# Altium footprint library USB.PcbLib: 17 footprints (part 1 of 2)
Each footprint in its own frame and in the unit in brackets; x right, y up, seen from the top. Pads: shape width x height; smd on the part's side, far side on the other; paste and mask are expansions set on the pad; w line width, h text height; cw(c..) or ccw(c..) is an arc to the next point about the centre after c.
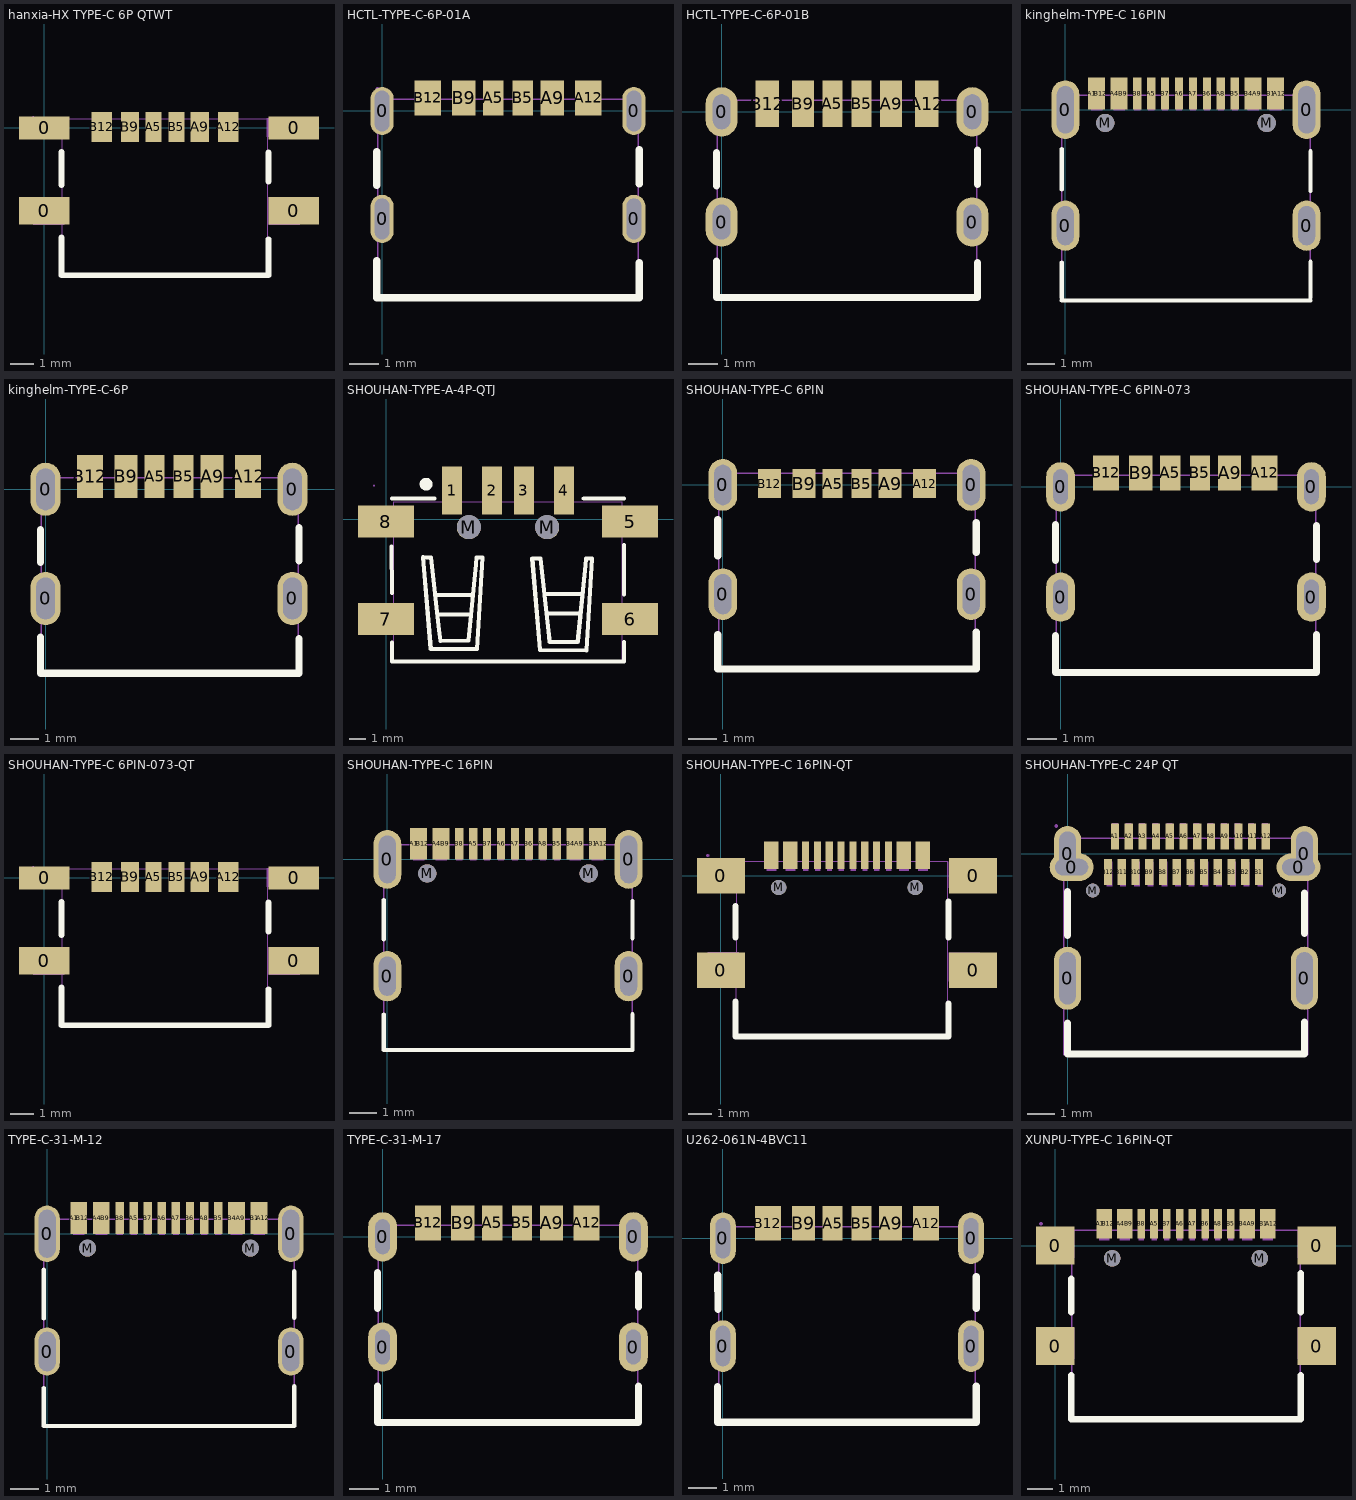
[diagram p0: the footprints below, top view; thin cyan lines are the x and y axes]

## hanxia-HX TYPE-C 6P QTWT [mm] "hanxia(韩下) Type-C 母 机械寿命：5000次 6P充电母座 不锈钢壳 四脚贴片"
pads (10):
  rect 2.2x1.2 smd: 0(0,-3.6) 0(10.84,-3.6)
  rect 2.2x1 smd: 0(0,0) 0(10.84,0)
  rect 0.7x1.3 smd: A5(4.744,0.05) B5(5.744,0.05)
  rect 0.8x1.3 smd: A9(6.764,0.05) B9(3.724,0.05)
  rect 0.9x1.3 smd: A12(7.994,0.05) B12(2.494,0.05)
Top Overlay:
  lines w0.254: 0.744,-4.764 0.744,-6.4 9.744,-6.4 9.744,-4.835 ; 0.75,-2.475 0.75,-1.045 ; 9.744,-2.332 9.744,-1.069
Mechanical 15:
  region: 11.1,-3 11.1,-4.2 9.75,-4.2 9.75,-3
  region: 11.175,0.425 11.175,-0.375 9.675,-0.375 9.675,0.425
  region: 0.874,-3 0.874,-4.2 -0.476,-4.2 -0.476,-3
  region: 1.024,0.4 1.024,-0.4 -0.476,-0.4 -0.476,0.4
  region: 7.694,0.45 8.294,0.45 8.294,-0.35 7.694,-0.35
  region: 2.194,0.45 2.794,0.45 2.794,-0.35 2.194,-0.35
  region: 6.484,0.45 7.044,0.45 7.044,-0.35 6.484,-0.35
  region: 3.444,0.45 4.004,0.45 4.004,-0.35 3.444,-0.35
  region: 5.484,0.45 6.004,0.45 6.004,-0.35 5.484,-0.35
  region: 4.484,0.45 5.004,0.45 5.004,-0.35 4.484,-0.35
  region: -0.416,0.45 -0.416,0.425 -0.451,0.39 -0.501,0.39 -0.536,0.425 -0.536,0.45 -0.536,0.475 -0.501,0.51 -0.451,0.51 -0.416,0.475
  lines w0.051: 0.774,-6.404 9.714,-6.404 9.714,0.396 0.774,0.396 0.774,-6.404
3D body "TypeC-6Pin-SMD-QT.STEP": height 3.26, standoff 0, extent -0.52,-6.442 10.92,0.458

## HCTL-TYPE-C-6P-01A [mm] "HCTL(华灿天禄) Type-C 母 卧贴 锈钢外壳 6PIN 推荐焊盘"
pads (10):
  oval 0.8x1.65 hole 0.5 slot 1.4 at 90 deg mask+0.05: 0(0,-3.7) 0(0,0) 0(8.64,-3.7) 0(8.64,0)
  rect 0.7x1.2 smd mask+0.05: A5(3.82,0.45) B5(4.82,0.45)
  rect 0.8x1.2 smd mask+0.05: A9(5.84,0.45) B9(2.8,0.45)
  rect 0.9x1.2 smd mask+0.05: A12(7.07,0.45) B12(1.57,0.45)
Top Overlay:
  lines w0.25: -0.181,-5.138 -0.181,-6.401 8.821,-6.401 8.821,-5.2 ; -0.18,-2.55 -0.18,-1.401 ; 8.82,-2.498 8.82,-1.328
Mechanical 15:
  region: -0.09,0.75 -0.09,0.725 -0.125,0.69 -0.175,0.69 -0.21,0.725 -0.21,0.75 -0.21,0.775 -0.175,0.81 -0.125,0.81 -0.09,0.775
  region: -0.15,0.4 0.15,0.4 0.15,-0.4 -0.15,-0.4
  region: -0.15,-3.4 0.15,-3.4 0.15,-4.2 -0.15,-4.2
  region: 8.49,-3.4 8.79,-3.4 8.79,-4.2 8.49,-4.2
  region: 8.49,0.4 8.79,0.4 8.79,-0.4 8.49,-0.4
  region: 1.32,0.75 1.92,0.75 1.92,0 1.32,0
  region: 6.72,0.75 7.32,0.75 7.32,0 6.72,0
  region: 2.54,0.75 3.1,0.75 3.1,0 2.54,0
  region: 5.54,0.75 6.1,0.75 6.1,0 5.54,0
  region: 4.56,0.75 5.08,0.75 5.08,0 4.56,0
  region: 3.56,0.75 4.08,0.75 4.08,0 3.56,0
  lines w0.051: -0.15,-6.4 8.79,-6.4 8.79,0.4 -0.15,0.4 -0.15,-6.4
3D body "TYPE-C-31-M-17.stp": height 3.22, standoff -0.79, extent -0.152,-6.404 8.788,0.396

## HCTL-TYPE-C-6P-01B [mm] "HCTL(华灿天禄) Type-C 母 卧贴 锈钢外壳 6PIN 推荐焊盘"
pads (10):
  oval 1.1x1.7 hole 0.6 slot 1.2 at 90 deg mask+0.05: 0(0,-3.8) 0(0,0) 0(8.64,-3.8) 0(8.64,0)
  rect 0.7x1.6 smd mask+0.05: A5(3.82,0.28) B5(4.82,0.28)
  rect 0.76x1.6 smd mask+0.05: A9(5.84,0.28) B9(2.8,0.28)
  rect 0.8x1.6 smd mask+0.05: A12(7.07,0.28) B12(1.57,0.28)
Top Overlay:
  lines w0.25: -0.181,-5.138 -0.181,-6.401 8.821,-6.401 8.821,-5.2 ; -0.18,-2.55 -0.18,-1.401 ; 8.82,-2.498 8.82,-1.328
Mechanical 15:
  region: 3.56,0.75 4.08,0.75 4.08,0 3.56,0
  region: 4.56,0.75 5.08,0.75 5.08,0 4.56,0
  region: 5.54,0.75 6.1,0.75 6.1,0 5.54,0
  region: 2.54,0.75 3.1,0.75 3.1,0 2.54,0
  region: 6.72,0.75 7.32,0.75 7.32,0 6.72,0
  region: 1.32,0.75 1.92,0.75 1.92,0 1.32,0
  region: 8.49,0.4 8.79,0.4 8.79,-0.4 8.49,-0.4
  region: 8.49,-3.4 8.79,-3.4 8.79,-4.2 8.49,-4.2
  region: -0.15,-3.4 0.15,-3.4 0.15,-4.2 -0.15,-4.2
  region: -0.15,0.4 0.15,0.4 0.15,-0.4 -0.15,-0.4
  region: -0.09,0.75 -0.09,0.725 -0.125,0.69 -0.175,0.69 -0.21,0.725 -0.21,0.75 -0.21,0.775 -0.175,0.81 -0.125,0.81 -0.09,0.775
  lines w0.051: -0.15,-6.4 -0.15,0.4 8.79,0.4 8.79,-6.4 -0.15,-6.4
3D body "TYPE-C-31-M-17.stp": height 3.22, standoff -0.79, extent -0.152,-6.404 8.788,0.396

## kinghelm-TYPE-C 16PIN [mm] "kinghelm(金航标) Type-C 母 卧贴 带定位柱 16PIN 推荐焊盘"
pads (22):
  oval 1x1.8 hole 0.6 slot 1.4 at 90 deg mask+0.05: 0(0,-4.15) 0(8.64,-4.15)
  oval 1x2.1 hole 0.6 slot 1.7 at 90 deg mask+0.05: 0(0,0) 0(8.64,0)
  rect 0.3x1.14 smd mask+0.05: A1(0.97,0.58) A4(1.77,0.58) A5(3.07,0.58) A6(4.07,0.58) A7(4.57,0.58) A8(5.57,0.58) A9(6.87,0.58) A12(7.67,0.58) B1(7.37,0.58) B4(6.57,0.58) B5(6.07,0.58) B6(5.07,0.58) B7(3.57,0.58) B8(2.57,0.58) B9(2.07,0.58) B12(1.27,0.58)
  round 0.65 hole 0.65 unplated mask+0: M(1.43,-0.47) M(7.21,-0.47)
Top Overlay:
  lines w0.15: -0.125,-6.825 8.775,-6.825 ; -0.125,-6.725 -0.125,-5.466 ; -0.125,-2.855 -0.125,-1.41 ; 8.775,-6.725 8.775,-5.444 ; 8.775,-2.909 8.775,-1.486
Mechanical 15:
  region: -0.125,-3.85 0.125,-3.85 0.125,-4.55 -0.125,-4.55
  region: 4.975,0.824 5.175,0.824 5.175,-0.026 4.975,-0.026
  region: 0.925,0.824 1.325,0.824 1.325,-0.026 0.925,-0.026
  region: 1.725,0.824 2.125,0.824 2.125,-0.026 1.725,-0.026
  region: 2.475,0.824 2.675,0.824 2.675,-0.026 2.475,-0.026
  region: 8.525,-3.85 8.775,-3.85 8.775,-4.55 8.525,-4.55
  region: 8.525,0.524 8.775,0.524 8.775,-0.576 8.525,-0.576
  region: -0.125,0.524 0.125,0.524 0.125,-0.576 -0.125,-0.576
  region: 7.325,0.824 7.725,0.824 7.725,-0.026 7.325,-0.026
  region: 6.525,0.824 6.925,0.824 6.925,-0.026 6.525,-0.026
  region: 5.975,0.824 6.175,0.824 6.175,-0.026 5.975,-0.026
  region: 5.475,0.824 5.675,0.824 5.675,-0.026 5.475,-0.026
  region: 4.475,0.824 4.675,0.824 4.675,-0.026 4.475,-0.026
  region: 3.975,0.824 4.175,0.824 4.175,-0.026 3.975,-0.026
  region: 2.975,0.824 3.175,0.824 3.175,-0.026 2.975,-0.026
  region: 3.475,0.824 3.675,0.824 3.675,-0.026 3.475,-0.026
  region: -0.065,0.824 -0.065,0.799 -0.1,0.764 -0.15,0.764 -0.185,0.799 -0.185,0.824 -0.185,0.849 -0.15,0.884 -0.1,0.884 -0.065,0.849
  lines w0.051: -0.127,-6.826 8.775,-6.826 8.775,0.524 -0.127,0.524 -0.127,-6.826
3D body "TYPE-C-16PIN-SMD.STEP": height 3.27, standoff -0.9, extent -0.165,-6.749 8.775,0.849

## kinghelm-TYPE-C-6P [mm] "kinghelm(金航标) Type-C 母 卧贴 锈钢外壳 6PIN 推荐焊盘"
pads (10):
  oval 1.05x1.85 hole 0.65 slot 1.45 at 90 deg mask+0.05: 0(0,-3.8) 0(0,0) 0(8.59,-3.8) 0(8.59,0)
  rect 0.7x1.5 smd mask+0.05: A5(3.795,0.45) B5(4.795,0.45)
  rect 0.8x1.5 smd mask+0.05: A9(5.795,0.45) B9(2.795,0.45)
  rect 0.9x1.5 smd mask+0.05: A12(7.045,0.45) B12(1.545,0.45)
Top Overlay:
  lines w0.25: -0.181,-5.138 -0.181,-6.401 8.821,-6.401 8.821,-5.2 ; -0.18,-2.55 -0.18,-1.401 ; 8.82,-2.498 8.82,-1.328
Mechanical 15:
  region: 3.56,0.75 4.08,0.75 4.08,0 3.56,0
  region: 4.56,0.75 5.08,0.75 5.08,0 4.56,0
  region: 5.54,0.75 6.1,0.75 6.1,0 5.54,0
  region: 2.54,0.75 3.1,0.75 3.1,0 2.54,0
  region: 6.72,0.75 7.32,0.75 7.32,0 6.72,0
  region: 1.32,0.75 1.92,0.75 1.92,0 1.32,0
  region: 8.49,0.4 8.79,0.4 8.79,-0.4 8.49,-0.4
  region: 8.49,-3.4 8.79,-3.4 8.79,-4.2 8.49,-4.2
  region: -0.15,-3.4 0.15,-3.4 0.15,-4.2 -0.15,-4.2
  region: -0.15,0.4 0.15,0.4 0.15,-0.4 -0.15,-0.4
  region: -0.09,0.75 -0.09,0.725 -0.125,0.69 -0.175,0.69 -0.21,0.725 -0.21,0.75 -0.21,0.775 -0.175,0.81 -0.125,0.81 -0.09,0.775
  lines w0.051: -0.15,-6.4 -0.15,0.4 8.79,0.4 8.79,-6.4 -0.15,-6.4
3D body "TYPE-C-31-M-17.stp": height 3.22, standoff -0.79, extent -0.152,-6.404 8.788,0.396

## SHOUHAN-TYPE-A-4P-QTJ [mm] "SHOU HAN(首韩) Type-A 母 卧贴 4PIN 推荐焊盘"
pads (10):
  rect 1.25x3 smd: 1(4.097,1.81) 2(6.597,1.81) 3(8.597,1.81) 4(11.097,1.81)
  rect 3.5x2 smd: 5(15.222,-0.14) 6(15.222,-6.24) 7(-0.028,-6.24) 8(-0.028,-0.14)
  round 1.5 hole 1.5 unplated mask+0: M(5.147,-0.49) M(10.047,-0.49)
Top Overlay:
  circle w0.4: c2.475,2.2 r0.2
  lines w0.254: 0.325,-1.7 0.35,-4.6 ; 0.347,-7.7 0.347,-8.89 14.847,-8.89 14.847,-7.675 ; 0.347,1.291 2.999,1.291 ; 3.111,-4.735 5.372,-4.735 ; 3.251,-5.945 5.281,-5.945 ; 9.961,-4.664 12.221,-4.664 ; 10.101,-5.874 12.131,-5.874 ; 12.331,1.291 14.847,1.291 ; 14.85,-4.7 14.85,-1.6 ; 2.274,-2.368 2.769,-8.103 5.652,-8.114 6.002,-2.371 5.622,-2.371 5.592,-2.801 5.118,-7.58 3.368,-7.59 3.293,-6.912 2.783,-2.372 2.274,-2.368 ; 9.113,-2.438 9.608,-8.173 12.491,-8.184 12.841,-2.441 12.461,-2.441 12.431,-2.871 11.957,-7.649 10.207,-7.66 10.132,-6.982 9.622,-2.441 9.113,-2.438
Mechanical 15:
  region: 3.847,2.11 4.347,2.11 4.347,0.91 3.847,0.91
  region: 6.347,2.11 6.847,2.11 6.847,0.91 6.347,0.91
  region: 8.347,2.11 8.847,2.11 8.847,0.91 8.347,0.91
  region: 10.847,2.11 11.347,2.11 11.347,0.91 10.847,0.91
  region: 0.722,-6.74 -0.778,-6.74 -0.778,-5.74 0.722,-5.74
  region: 0.722,-0.64 -0.778,-0.64 -0.778,0.36 0.722,0.36
  region: 15.972,-0.64 14.472,-0.64 14.472,0.36 15.972,0.36
  region: 15.972,-6.74 14.472,-6.74 14.472,-5.74 15.972,-5.74
  region: -0.718,2.11 -0.718,2.085 -0.753,2.05 -0.803,2.05 -0.838,2.085 -0.838,2.11 -0.838,2.135 -0.803,2.17 -0.753,2.17 -0.718,2.135
  lines w0.051: 0.447,-8.89 0.447,1.11 14.747,1.11 14.747,-8.89 0.447,-8.89
3D body "TYPE-A-4P-QT.STEP": height 6.95, standoff -0.6, extent -0.425,-8.57 15.575,2.83

## SHOUHAN-TYPE-C 6PIN [mm] "SHOU HAN(首韩) Type-C 母 卧贴 锈钢外壳 6PIN 推荐焊盘"
pads (10):
  oval 1x1.8 hole 0.6 slot 1.4 at 90 deg mask+0.05: 0(0,-3.8) 0(0,0) 0(8.64,-3.8) 0(8.64,0)
  rect 0.7x1 smd mask+0.05: A5(3.82,0.05) B5(4.82,0.05)
  rect 0.8x1 smd mask+0.05: A9(5.82,0.05) A12(7.02,0.05) B9(2.82,0.05) B12(1.62,0.05)
Top Overlay:
  lines w0.25: -0.181,-5.212 -0.181,-6.401 8.821,-6.401 8.821,-5.122 ; -0.18,-2.474 -0.18,-1.2 ; 8.82,-2.345 8.82,-1.31
Mechanical 15:
  region: 3.56,0.475 4.08,0.475 4.08,-0.275 3.56,-0.275
  region: 4.56,0.475 5.08,0.475 5.08,-0.275 4.56,-0.275
  region: 5.54,0.475 6.1,0.475 6.1,-0.275 5.54,-0.275
  region: 2.54,0.475 3.1,0.475 3.1,-0.275 2.54,-0.275
  region: 6.72,0.475 7.32,0.475 7.32,-0.275 6.72,-0.275
  region: 1.32,0.475 1.92,0.475 1.92,-0.275 1.32,-0.275
  region: 8.49,0.4 8.79,0.4 8.79,-0.4 8.49,-0.4
  region: 8.49,-3.4 8.79,-3.4 8.79,-4.2 8.49,-4.2
  region: -0.15,-3.4 0.15,-3.4 0.15,-4.2 -0.15,-4.2
  region: -0.15,0.4 0.15,0.4 0.15,-0.4 -0.15,-0.4
  region: -0.09,0.75 -0.09,0.725 -0.125,0.69 -0.175,0.69 -0.21,0.725 -0.21,0.75 -0.21,0.775 -0.175,0.81 -0.125,0.81 -0.09,0.775
  lines w0.051: -0.15,-6.4 -0.15,0.4 8.79,0.4 8.79,-6.4 -0.15,-6.4
3D body "TYPE-C-31-M-17.stp": height 3.22, standoff -0.79, extent -0.152,-6.404 8.788,0.396

## SHOUHAN-TYPE-C 6PIN-073 [mm] "SHOU HAN(首韩) Type-C 母 卧贴 锈钢外壳 6PIN 推荐焊盘"
pads (10):
  oval 1x1.7 hole 0.5 slot 1.2 at 90 deg mask+0.05: 0(0,-3.8) 0(0,0) 0(8.64,-3.8) 0(8.64,0)
  rect 0.7x1.2 smd mask+0.05: A5(3.78,0.48) B5(4.8,0.48)
  rect 0.8x1.2 smd mask+0.05: A9(5.82,0.48) B9(2.76,0.48)
  rect 0.9x1.2 smd mask+0.05: A12(7.02,0.48) B12(1.56,0.48)
Top Overlay:
  lines w0.25: -0.181,-5.129 -0.181,-6.401 8.821,-6.401 8.821,-5.099 ; -0.18,-2.53 -0.18,-1.296 ; 8.82,-2.509 8.82,-1.337
Mechanical 15:
  region: 3.56,0.75 4.08,0.75 4.08,0 3.56,0
  region: 4.56,0.75 5.08,0.75 5.08,0 4.56,0
  region: 5.54,0.75 6.1,0.75 6.1,0 5.54,0
  region: 2.54,0.75 3.1,0.75 3.1,0 2.54,0
  region: 6.72,0.75 7.32,0.75 7.32,0 6.72,0
  region: 1.32,0.75 1.92,0.75 1.92,0 1.32,0
  region: 8.49,0.4 8.79,0.4 8.79,-0.4 8.49,-0.4
  region: 8.49,-3.4 8.79,-3.4 8.79,-4.2 8.49,-4.2
  region: -0.15,-3.4 0.15,-3.4 0.15,-4.2 -0.15,-4.2
  region: -0.15,0.4 0.15,0.4 0.15,-0.4 -0.15,-0.4
  region: -0.09,0.75 -0.09,0.725 -0.125,0.69 -0.175,0.69 -0.21,0.725 -0.21,0.75 -0.21,0.775 -0.175,0.81 -0.125,0.81 -0.09,0.775
  lines w0.051: -0.15,-6.4 -0.15,0.4 8.79,0.4 8.79,-6.4 -0.15,-6.4
3D body "TYPE-C-31-M-17.stp": height 3.22, standoff -0.79, extent -0.152,-6.404 8.788,0.396

## SHOUHAN-TYPE-C 6PIN-073-QT [mm] "SHOU HAN(首韩) Type-C 母 卧贴 锈钢外壳 6PIN 推荐焊盘 四角全贴"
pads (10):
  rect 2.2x1.2 smd: 0(0,-3.6) 0(10.84,-3.6)
  rect 2.2x1 smd: 0(0,0) 0(10.84,0)
  rect 0.7x1.3 smd: A5(4.744,0.05) B5(5.744,0.05)
  rect 0.8x1.3 smd: A9(6.764,0.05) B9(3.724,0.05)
  rect 0.9x1.3 smd: A12(7.994,0.05) B12(2.494,0.05)
Top Overlay:
  lines w0.254: 0.744,-4.764 0.744,-6.4 9.744,-6.4 9.744,-4.835 ; 0.75,-2.475 0.75,-1.045 ; 9.744,-2.332 9.744,-1.069
Mechanical 15:
  region: 11.1,-3 11.1,-4.2 9.75,-4.2 9.75,-3
  region: 11.175,0.425 11.175,-0.375 9.675,-0.375 9.675,0.425
  region: 0.874,-3 0.874,-4.2 -0.476,-4.2 -0.476,-3
  region: 1.024,0.4 1.024,-0.4 -0.476,-0.4 -0.476,0.4
  region: 7.694,0.45 8.294,0.45 8.294,-0.35 7.694,-0.35
  region: 2.194,0.45 2.794,0.45 2.794,-0.35 2.194,-0.35
  region: 6.484,0.45 7.044,0.45 7.044,-0.35 6.484,-0.35
  region: 3.444,0.45 4.004,0.45 4.004,-0.35 3.444,-0.35
  region: 5.484,0.45 6.004,0.45 6.004,-0.35 5.484,-0.35
  region: 4.484,0.45 5.004,0.45 5.004,-0.35 4.484,-0.35
  region: -0.416,0.45 -0.416,0.425 -0.451,0.39 -0.501,0.39 -0.536,0.425 -0.536,0.45 -0.536,0.475 -0.501,0.51 -0.451,0.51 -0.416,0.475
  lines w0.051: 0.774,-6.404 9.714,-6.404 9.714,0.396 0.774,0.396 0.774,-6.404
3D body "TypeC-6Pin-SMD-QT.STEP": height 3.26, standoff 0, extent -0.52,-6.442 10.92,0.458

## SHOUHAN-TYPE-C 16PIN [mm] "SHOU HAN(首韩) Type-C 母 卧贴 带定位柱 不锈钢外壳 16PIN 推荐焊盘"
pads (22):
  oval 1x1.8 hole 0.6 slot 1.4 at 90 deg mask+0.05: 0(0,-4.18) 0(8.64,-4.18)
  oval 1x2.1 hole 0.6 slot 1.7 at 90 deg mask+0.05: 0(0,0) 0(8.64,0)
  rect 0.3x1.14 smd mask+0.05: A1(0.97,0.56) A4(1.77,0.56) A5(3.07,0.56) A6(4.07,0.56) A7(4.57,0.56) A8(5.57,0.56) A9(6.87,0.56) A12(7.67,0.56) B1(7.37,0.56) B4(6.57,0.56) B5(6.07,0.56) B6(5.07,0.56) B7(3.57,0.56) B8(2.57,0.56) B9(2.07,0.56) B12(1.27,0.56)
  round 0.65 hole 0.65 mask+0: M(1.43,-0.5) M(7.21,-0.5)
Top Overlay:
  lines w0.15: -0.125,-5.55 -0.125,-6.825 8.775,-6.825 8.775,-5.54 ; -0.125,-2.855 -0.125,-1.456 ; 8.775,-2.822 8.775,-1.488
Mechanical 15:
  region: -0.065,0.824 -0.065,0.799 -0.1,0.764 -0.15,0.764 -0.185,0.799 -0.185,0.824 -0.185,0.849 -0.15,0.884 -0.1,0.884 -0.065,0.849
  region: 3.475,0.824 3.675,0.824 3.675,-0.026 3.475,-0.026
  region: 2.975,0.824 3.175,0.824 3.175,-0.026 2.975,-0.026
  region: 3.975,0.824 4.175,0.824 4.175,-0.026 3.975,-0.026
  region: 4.475,0.824 4.675,0.824 4.675,-0.026 4.475,-0.026
  region: 5.475,0.824 5.675,0.824 5.675,-0.026 5.475,-0.026
  region: 5.975,0.824 6.175,0.824 6.175,-0.026 5.975,-0.026
  region: 6.525,0.824 6.925,0.824 6.925,-0.026 6.525,-0.026
  region: 7.325,0.824 7.725,0.824 7.725,-0.026 7.325,-0.026
  region: -0.125,0.524 0.125,0.524 0.125,-0.576 -0.125,-0.576
  region: 8.525,0.524 8.775,0.524 8.775,-0.576 8.525,-0.576
  region: 8.525,-3.85 8.775,-3.85 8.775,-4.55 8.525,-4.55
  region: 2.475,0.824 2.675,0.824 2.675,-0.026 2.475,-0.026
  region: 1.725,0.824 2.125,0.824 2.125,-0.026 1.725,-0.026
  region: 0.925,0.824 1.325,0.824 1.325,-0.026 0.925,-0.026
  region: 4.975,0.824 5.175,0.824 5.175,-0.026 4.975,-0.026
  region: -0.125,-3.85 0.125,-3.85 0.125,-4.55 -0.125,-4.55
  lines w0.051: -0.127,-6.826 -0.127,0.524 8.775,0.524 8.775,-6.826 -0.127,-6.826
3D body "TYPE-C-16PIN-SMD.STEP": height 3.29, standoff -0.88, extent -0.14,-6.774 8.8,0.824

## SHOUHAN-TYPE-C 16PIN-QT [mm] "SHOU HAN(首韩) 16PIN TYPEC 四角贴板 带定位柱 推荐焊盘"
pads (22):
  rect 2.02x1.5 smd paste+0 mask+0.05: 0(0,-4) 0(0,0) 0(10.66,-4) 0(10.66,0)
  rect 0.3x1.15 smd paste+0 mask+0.05: A1(1.98,0.86) A4(2.78,0.86) A5(4.08,0.86) A6(5.08,0.86) A7(5.58,0.86) A8(6.58,0.86) A9(7.88,0.86) A12(8.68,0.86) B1(8.38,0.86) B4(7.58,0.86) B5(7.08,0.86) B6(6.08,0.86) B7(4.58,0.86) B8(3.58,0.86) B9(3.08,0.86) B12(2.28,0.86)
  round 0.65 hole 0.65 mask+0: M(2.44,-0.5) M(8.22,-0.5)
Top Overlay:
  lines w0.254: 0.62,-5.321 0.62,-6.79 9.62,-6.79 9.62,-5.413 ; 0.62,-2.609 0.62,-1.29 ; 9.62,-2.609 9.62,-1.09
Mechanical 15:
  region: 6.99,0.85 7.19,0.85 7.19,0.2 6.99,0.2
  region: 6.49,0.85 6.69,0.85 6.69,0.2 6.49,0.2
  region: 5.99,0.85 6.19,0.85 6.19,0.2 5.99,0.2
  region: 5.49,0.85 5.69,0.85 5.69,0.2 5.49,0.2
  region: 4.99,0.85 5.19,0.85 5.19,0.2 4.99,0.2
  region: 4.49,0.85 4.69,0.85 4.69,0.2 4.49,0.2
  region: 3.99,0.85 4.19,0.85 4.19,0.2 3.99,0.2
  region: 3.49,0.85 3.69,0.85 3.69,0.2 3.49,0.2
  region: 8.34,0.85 8.74,0.85 8.74,0.2 8.34,0.2
  region: 7.54,0.85 7.94,0.85 7.94,0.2 7.54,0.2
  region: 2.74,0.85 3.14,0.85 3.14,0.2 2.74,0.2
  region: 1.94,0.85 2.34,0.85 2.34,0.2 1.94,0.2
  region: 9.635,-3.265 10.935,-3.265 10.935,-4.465 9.635,-4.465
  region: -0.555,-3.24 0.745,-3.24 0.745,-4.44 -0.555,-4.44
  region: -0.555,0.61 0.745,0.61 0.745,-0.49 -0.555,-0.49
  region: 9.635,0.585 10.935,0.585 10.935,-0.515 9.635,-0.515
  region: -0.495,0.85 -0.495,0.825 -0.53,0.79 -0.58,0.79 -0.615,0.825 -0.615,0.85 -0.615,0.875 -0.58,0.91 -0.53,0.91 -0.495,0.875
  lines w0.051: 0.64,0.6 0.65,-3.66 0.65,-6.76 9.59,-6.76 9.59,0.6 0.64,0.6
3D body "TYPE-C-16PIN-SMD-QT.STEP": height 3.24, standoff -0.6, extent -0.345,-6.804 10.995,0.796

## SHOUHAN-TYPE-C 24P QT [mm] "SHOU HAN(首韩) Type-C 母 卧贴 带定位柱 不锈钢外壳 24PIN 推荐焊盘 /  / 焊盘整体向右偏移0.062，未给出确切偏移尺寸"
pads (32):
  oval 1x2.3 hole 0.6 slot 1.9 at 90 deg paste-2539.97 mask+0.05: 0(0,-4.55) 0(8.64,-4.55)
  oval 1x2 hole 0.6 slot 1.6 at 90 deg mask+0.05: 0(0,0) 0(8.64,0)
  oval 1.6x1 hole 0.6 slot 1.2 at 0 deg mask+0.05: 0(0.15,-0.5) 0(8.425,-0.5)
  rect 0.3x0.95 smd paste-100 mask+0.05: A1(1.73,0.625) A2(2.23,0.625) A3(2.73,0.625) A4(3.23,0.625) A5(3.73,0.625) A6(4.23,0.625) A7(4.73,0.625) A8(5.23,0.625) A9(5.73,0.625) A10(6.23,0.625) A11(6.73,0.625) A12(7.23,0.625) B1(6.98,-0.675) B2(6.48,-0.675) B3(5.98,-0.675) B4(5.48,-0.675) B5(4.98,-0.675) B6(4.48,-0.675) B7(3.98,-0.675) B8(3.48,-0.675) B9(2.98,-0.675) B10(2.48,-0.675) B11(1.98,-0.675) B12(1.48,-0.675)
  round 0.5 hole 0.5 mask+0: M(0.92,-1.35) M(7.72,-1.35)
Top Overlay:
  lines w0.254: -0.002,-6.187 -0.002,-7.319 8.638,-7.319 8.638,-6.142 ; -0.001,-2.994 0,-1.391 ; 8.636,-1.437 8.637,-2.914
Mechanical 15:
  drawing of 35 lines, arcs and shapes, not listed
3D body "USB-C-SMD_TYPE-C-24P-QT.STEP": height 3.16, standoff -0.6, extent -0.14,-7.25 8.8,0.85

## TYPE-C-31-M-12 [mm] "韩国韩荣 Type-C 母 卧贴 带定位柱 不锈钢外壳 16PIN 推荐焊盘"
pads (22):
  oval 0.9x1.7 hole 0.6 slot 1.4 at 90 deg mask+0.05: 0(0,-4.18) 0(8.65,-4.18)
  oval 0.9x2 hole 0.6 slot 1.7 at 90 deg mask+0.05: 0(0,0) 0(8.65,0)
  rect 0.3x1.14 smd mask+0.05: A1(0.97,0.56) A4(1.77,0.56) A5(3.07,0.56) A6(4.07,0.56) A7(4.57,0.56) A8(5.57,0.56) A9(6.87,0.56) A12(7.67,0.56) B1(7.37,0.56) B4(6.57,0.56) B5(6.07,0.56) B6(5.07,0.56) B7(3.57,0.56) B8(2.57,0.56) B9(2.07,0.56) B12(1.27,0.56)
  round 0.6 hole 0.6 mask+0: M(1.435,-0.51) M(7.215,-0.51)
Top Overlay:
  lines w0.15: -0.125,-5.48 -0.125,-6.825 8.775,-6.825 8.775,-5.415 ; -0.125,-3.005 -0.125,-1.273 ; 8.775,-2.984 8.775,-1.327
Mechanical 15:
  region: -0.065,0.824 -0.065,0.799 -0.1,0.764 -0.15,0.764 -0.185,0.799 -0.185,0.824 -0.185,0.849 -0.15,0.884 -0.1,0.884 -0.065,0.849
  region: 3.475,0.824 3.675,0.824 3.675,-0.026 3.475,-0.026
  region: 2.975,0.824 3.175,0.824 3.175,-0.026 2.975,-0.026
  region: 3.975,0.824 4.175,0.824 4.175,-0.026 3.975,-0.026
  region: 4.475,0.824 4.675,0.824 4.675,-0.026 4.475,-0.026
  region: 5.475,0.824 5.675,0.824 5.675,-0.026 5.475,-0.026
  region: 5.975,0.824 6.175,0.824 6.175,-0.026 5.975,-0.026
  region: 6.525,0.824 6.925,0.824 6.925,-0.026 6.525,-0.026
  region: 7.325,0.824 7.725,0.824 7.725,-0.026 7.325,-0.026
  region: -0.125,0.524 0.125,0.524 0.125,-0.576 -0.125,-0.576
  region: 8.525,0.524 8.775,0.524 8.775,-0.576 8.525,-0.576
  region: 8.525,-3.85 8.775,-3.85 8.775,-4.55 8.525,-4.55
  region: 2.475,0.824 2.675,0.824 2.675,-0.026 2.475,-0.026
  region: 1.725,0.824 2.125,0.824 2.125,-0.026 1.725,-0.026
  region: 0.925,0.824 1.325,0.824 1.325,-0.026 0.925,-0.026
  region: 4.975,0.824 5.175,0.824 5.175,-0.026 4.975,-0.026
  region: -0.125,-3.85 0.125,-3.85 0.125,-4.55 -0.125,-4.55
  lines w0.051: -0.127,-6.826 -0.127,0.524 8.775,0.524 8.775,-6.826 -0.127,-6.826
3D body "TYPE-C-31-M-12.step": height 3.27, standoff -0.99, extent -0.155,-6.785 8.785,0.965

## TYPE-C-31-M-17 [mm] "韩国韩荣 Type-C 母 卧贴 锈钢外壳 6PIN 推荐焊盘"
pads (10):
  oval 1x1.7 hole 0.5 slot 1.2 at 90 deg mask+0.05: 0(0,-3.8) 0(0,0) 0(8.64,-3.8) 0(8.64,0)
  rect 0.7x1.2 smd mask+0.05: A5(3.78,0.48) B5(4.8,0.48)
  rect 0.8x1.2 smd mask+0.05: A9(5.82,0.48) B9(2.76,0.48)
  rect 0.9x1.2 smd mask+0.05: A12(7.02,0.48) B12(1.56,0.48)
Top Overlay:
  lines w0.25: -0.181,-5.139 -0.181,-6.401 8.821,-6.401 8.821,-5.15 ; -0.18,-2.458 -0.18,-1.235 ; 8.82,-2.418 8.82,-1.286
Mechanical 15:
  region: -0.09,0.75 -0.09,0.725 -0.125,0.69 -0.175,0.69 -0.21,0.725 -0.21,0.75 -0.21,0.775 -0.175,0.81 -0.125,0.81 -0.09,0.775
  region: -0.15,0.4 0.15,0.4 0.15,-0.4 -0.15,-0.4
  region: -0.15,-3.4 0.15,-3.4 0.15,-4.2 -0.15,-4.2
  region: 8.49,-3.4 8.79,-3.4 8.79,-4.2 8.49,-4.2
  region: 8.49,0.4 8.79,0.4 8.79,-0.4 8.49,-0.4
  region: 1.32,0.75 1.92,0.75 1.92,0 1.32,0
  region: 6.72,0.75 7.32,0.75 7.32,0 6.72,0
  region: 2.54,0.75 3.1,0.75 3.1,0 2.54,0
  region: 5.54,0.75 6.1,0.75 6.1,0 5.54,0
  region: 4.56,0.75 5.08,0.75 5.08,0 4.56,0
  region: 3.56,0.75 4.08,0.75 4.08,0 3.56,0
  lines w0.051: -0.15,-6.4 8.79,-6.4 8.79,0.4 -0.15,0.4 -0.15,-6.4
3D body "TYPE-C-31-M-17.stp": height 3.22, standoff -0.79, extent -0.165,-6.4 8.775,0.4

## U262-061N-4BVC11 [mm] "XKB Connection(中国星坤) Type-C 母 卧贴 锈钢外壳 6PIN 推荐焊盘"
pads (10):
  oval 0.9x1.8 hole 0.5 slot 1.4 at 90 deg mask+0.05: 0(0,-3.75) 0(0,0) 0(8.64,-3.75) 0(8.64,0)
  rect 0.7x1.2 smd mask+0.05: A5(3.82,0.53) B5(4.82,0.53)
  rect 0.8x1.2 smd mask+0.05: A9(5.84,0.53) B9(2.8,0.53)
  rect 0.9x1.2 smd mask+0.05: A12(7.07,0.53) B12(1.57,0.53)
Top Overlay:
  lines w0.25: -0.186,-5.154 -0.186,-6.401 8.821,-6.401 8.821,-5.152 ; -0.18,-1.278 -0.173,-2.477 ; 8.82,-2.445 8.82,-1.328
Mechanical 15:
  region: 3.56,0.925 4.08,0.925 4.08,0.175 3.56,0.175
  region: 4.56,0.925 5.08,0.925 5.08,0.175 4.56,0.175
  region: 5.54,0.925 6.1,0.925 6.1,0.175 5.54,0.175
  region: 2.54,0.925 3.1,0.925 3.1,0.175 2.54,0.175
  region: 6.72,0.925 7.32,0.925 7.32,0.175 6.72,0.175
  region: 1.32,0.925 1.92,0.925 1.92,0.175 1.32,0.175
  region: 8.49,0.4 8.79,0.4 8.79,-0.4 8.49,-0.4
  region: 8.49,-3.4 8.79,-3.4 8.79,-4.2 8.49,-4.2
  region: -0.15,-3.4 0.15,-3.4 0.15,-4.2 -0.15,-4.2
  region: -0.15,0.4 0.15,0.4 0.15,-0.4 -0.15,-0.4
  region: -0.09,0.75 -0.09,0.725 -0.125,0.69 -0.175,0.69 -0.21,0.725 -0.21,0.75 -0.21,0.775 -0.175,0.81 -0.125,0.81 -0.09,0.775
  lines w0.051: -0.15,-6.4 -0.15,0.4 8.79,0.4 8.79,-6.4 -0.15,-6.4
3D body "U262-061N-4BVC11.stp": height 3.25, standoff -0.95, extent -0.125,-6.325 8.825,0.675

## XUNPU-TYPE-C 16PIN-QT [mm] "XUNPU(讯普) 16PIN TYPEC 四角贴板 带定位柱 推荐焊盘"
pads (22):
  rect 1.5x1.5 smd paste+0 mask+0.05: 0(0,-3.93) 0(0,0) 0(10.24,-3.93) 0(10.24,0)
  rect 0.3x1.15 smd paste+0 mask+0.05: A1(1.77,0.86) A4(2.57,0.86) A5(3.87,0.86) A6(4.87,0.86) A7(5.37,0.86) A8(6.37,0.86) A9(7.67,0.86) A12(8.47,0.86) B1(8.17,0.86) B4(7.37,0.86) B5(6.87,0.86) B6(5.87,0.86) B7(4.37,0.86) B8(3.37,0.86) B9(2.87,0.86) B12(2.07,0.86)
  round 0.65 hole 0.65 unplated mask+0: M(2.23,-0.5) M(8.01,-0.5)
Top Overlay:
  lines w0.254: 0.62,-5.071 0.62,-6.79 9.62,-6.79 9.62,-5.071 ; 0.62,-2.609 0.62,-1.29 ; 9.62,-2.609 9.62,-1.09
Mechanical 15:
  region: 6.77,0.85 6.97,0.85 6.97,0.2 6.77,0.2
  region: 6.27,0.85 6.47,0.85 6.47,0.2 6.27,0.2
  region: 5.77,0.85 5.97,0.85 5.97,0.2 5.77,0.2
  region: 5.27,0.85 5.47,0.85 5.47,0.2 5.27,0.2
  region: 4.77,0.85 4.97,0.85 4.97,0.2 4.77,0.2
  region: 4.27,0.85 4.47,0.85 4.47,0.2 4.27,0.2
  region: 3.77,0.85 3.97,0.85 3.97,0.2 3.77,0.2
  region: 3.27,0.85 3.47,0.85 3.47,0.2 3.27,0.2
  region: 8.12,0.85 8.52,0.85 8.52,0.2 8.12,0.2
  region: 7.32,0.85 7.72,0.85 7.72,0.2 7.32,0.2
  region: 2.52,0.85 2.92,0.85 2.92,0.2 2.52,0.2
  region: 1.72,0.85 2.12,0.85 2.12,0.2 1.72,0.2
  region: 9.485,-3.24 10.785,-3.24 10.785,-4.44 9.485,-4.44
  region: -0.555,-3.24 0.745,-3.24 0.745,-4.44 -0.555,-4.44
  region: -0.555,0.61 0.745,0.61 0.745,-0.49 -0.555,-0.49
  region: 9.485,0.61 10.785,0.61 10.785,-0.49 9.485,-0.49
  region: -0.495,0.85 -0.495,0.825 -0.53,0.79 -0.58,0.79 -0.615,0.825 -0.615,0.85 -0.615,0.875 -0.58,0.91 -0.53,0.91 -0.495,0.875
  lines w0.051: 0.64,0.6 0.65,-3.66 0.65,-6.76 9.59,-6.76 9.59,0.6 0.64,0.6
3D body "TYPE-C-16PIN-SMD-QT.STEP": height 3.24, standoff -0.6, extent -0.545,-6.804 10.795,0.796